# Altium footprint library SM08B-NSHSS-TB (LF)(SN).PcbLib: 1 footprints
Each footprint in its own frame and in the unit in brackets; x right, y up, seen from the top. Pads: shape width x height; smd on the part's side, far side on the other; paste and mask are expansions set on the pad; w line width, h text height; cw(c..) or ccw(c..) is an arc to the next point about the centre after c.
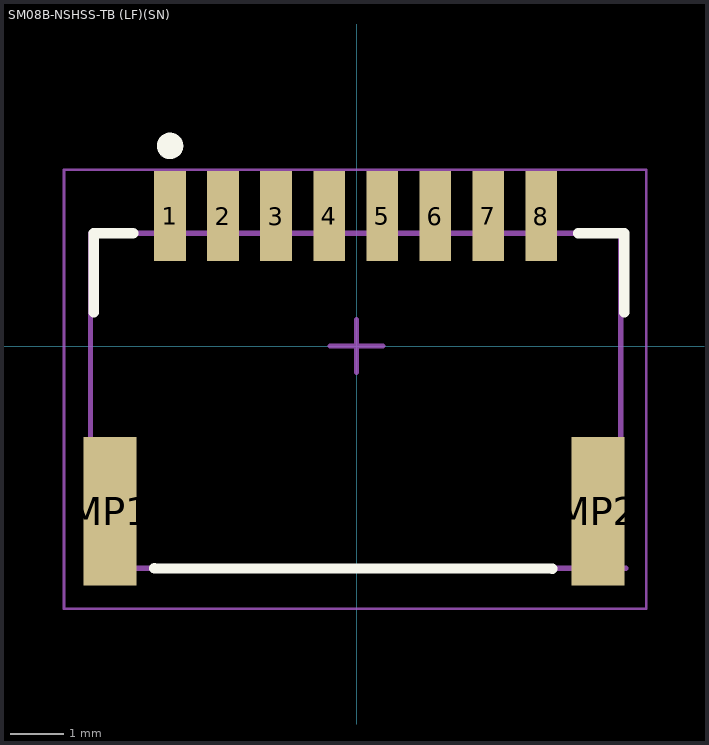
[diagram p0: the footprint, top view; thin cyan lines are the x and y axes]

## SM08B-NSHSS-TB (LF)(SN) [mm] "SMD, 6-Leads, Body 8x4.25mm, Pitch 1mm"
height 2.95
pads (10):
  rect 0.6x1.7 smd: 1(-3.516,2.45) 2(-2.516,2.45) 3(-1.516,2.45) 4(-0.516,2.45) 5(0.484,2.45) 6(1.484,2.45) 7(2.484,2.45) 8(3.484,2.45)
  rect 1x2.8 smd: MP1(-4.648,-3.119) MP2(4.552,-3.119)
Top Overlay:
  circle w0.25: c-3.516,3.775 r0.125
  lines w0.2: -4.953,0.635 -4.953,2.125 -4.216,2.125 ; -3.81,-4.191 3.692,-4.2 ; 4.184,2.125 5.048,2.125 5.048,0.635
Mechanical 13:
  lines w0.1: 4.984,-2.125 4.984,2.125 ; 5.08,-4.191 -5.016,-4.191 -5.016,2.125 5.08,2.125
Mechanical 15:
  lines w0.05: -5.516,-4.953 5.461,-4.953 5.461,3.325 -5.516,3.325 -5.516,-4.953
  lines w0.1: -0.5,0 0.5,0 ; 0,-0.5 0,0.5
3D body "SM08B-NSHSS-TB.STEP": height 4.5, standoff 0, extent -5,-4.191 5,2.609